# Altium footprint library Connector_PinSocket_2.54mm.PcbLib: 278 footprints (part 16 of 18)
Each footprint in its own frame and in the unit in brackets; x right, y up, seen from the top. Pads: shape width x height; smd on the part's side, far side on the other; paste and mask are expansions set on the pad; w line width, h text height; cw(c..) or ccw(c..) is an arc to the next point about the centre after c.
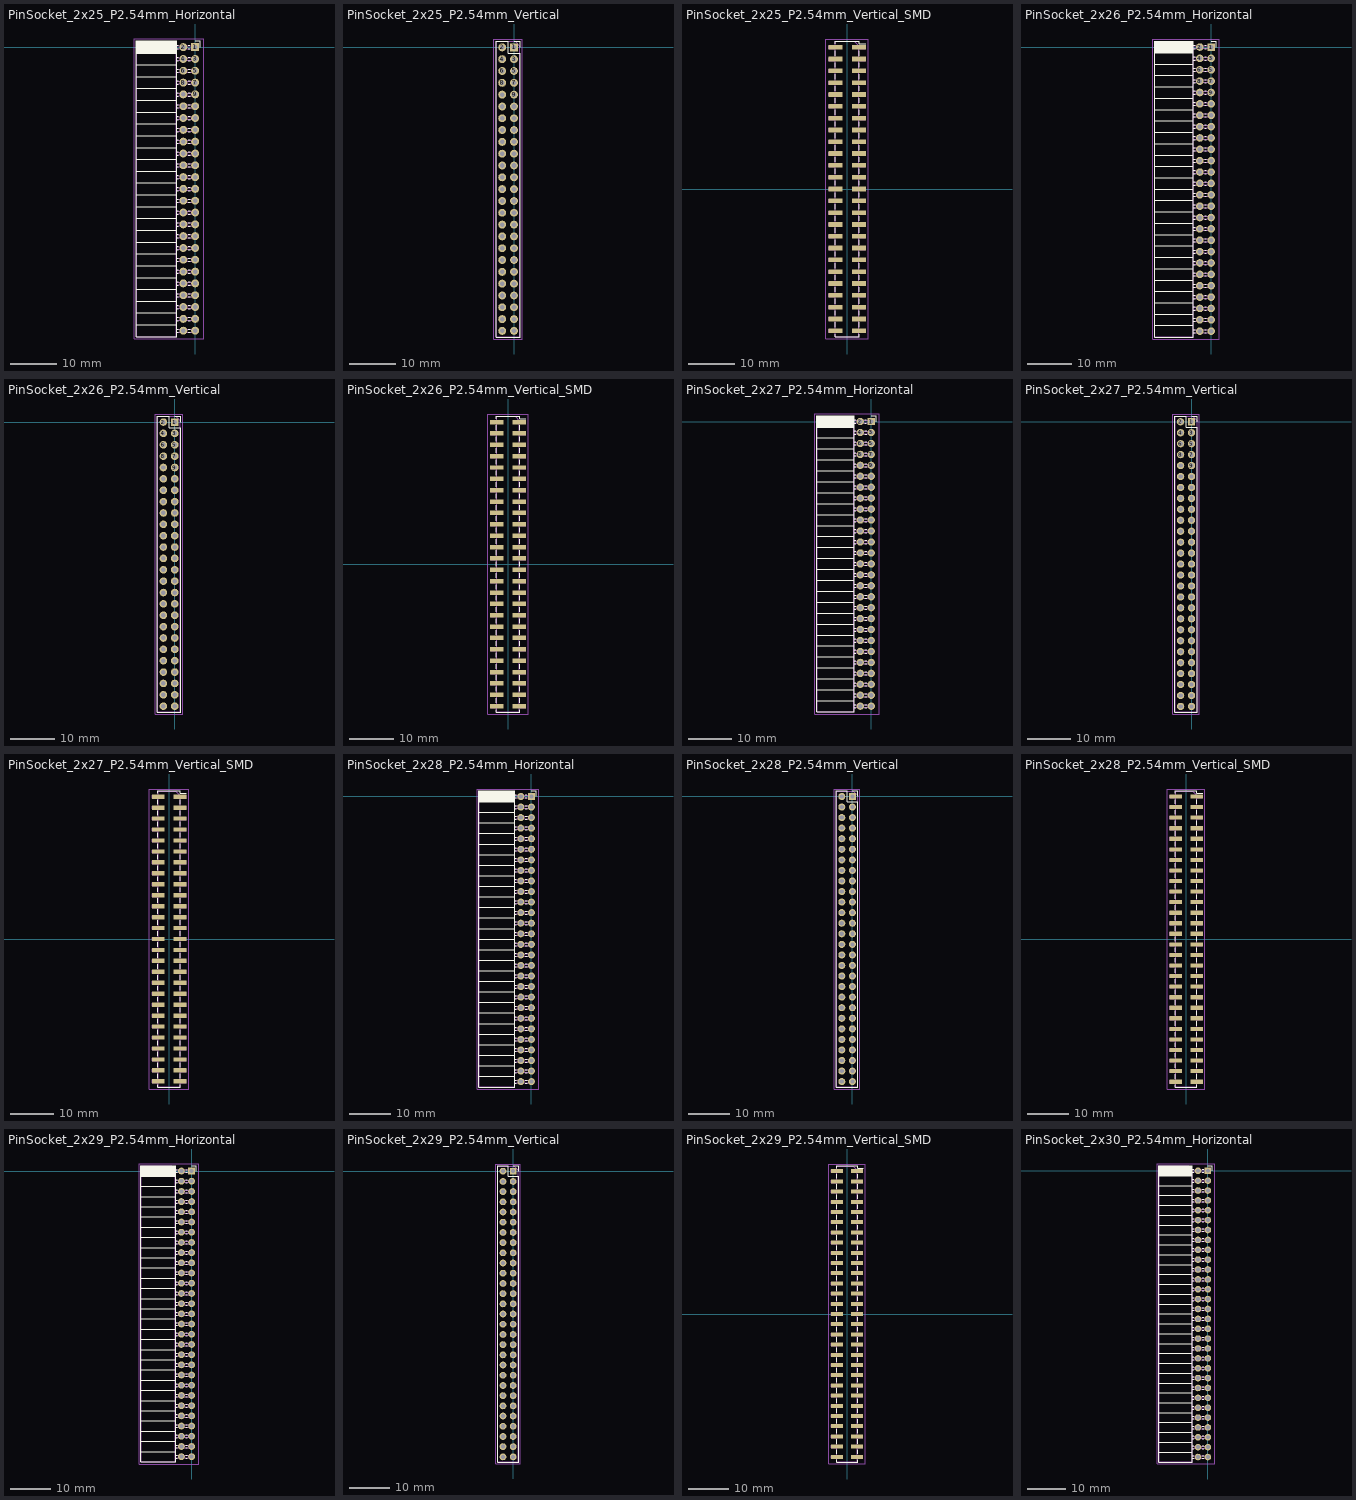
[diagram p15: the footprints below, top view; thin cyan lines are the x and y axes]

## PinSocket_2x25_P2.54mm_Horizontal [mm]
pads (50):
  rect 1.7x1.7 hole 1: 1(0,0)
  round 1.7 hole 1: 2(-2.54,0) 3(0,-2.54) 4(-2.54,-2.54) 5(0,-5.08) 6(-2.54,-5.08) 7(0,-7.62) 8(-2.54,-7.62) 9(0,-10.16) 10(-2.54,-10.16) 11(0,-12.7) 12(-2.54,-12.7) 13(0,-15.24) 14(-2.54,-15.24) 15(0,-17.78) 16(-2.54,-17.78) 17(0,-20.32) 18(-2.54,-20.32) 19(0,-22.86) 20(-2.54,-22.86) 21(0,-25.4) 22(-2.54,-25.4) 23(0,-27.94) 24(-2.54,-27.94) 25(0,-30.48) 26(-2.54,-30.48) 27(0,-33.02) 28(-2.54,-33.02) 29(0,-35.56) 30(-2.54,-35.56) 31(0,-38.1) 32(-2.54,-38.1) 33(0,-40.64) 34(-2.54,-40.64) 35(0,-43.18) 36(-2.54,-43.18) 37(0,-45.72) 38(-2.54,-45.72) 39(0,-48.26) 40(-2.54,-48.26) 41(0,-50.8) 42(-2.54,-50.8) 43(0,-53.34) 44(-2.54,-53.34) 45(0,-55.88) 46(-2.54,-55.88) 47(0,-58.42) 48(-2.54,-58.42) 49(0,-60.96) 50(-2.54,-60.96)
F.SilkS:
  drawing of 151 lines, arcs and shapes, not listed
Top Assembly:
  lines w0.254: -4.06,-61.26 0,-61.26 0,-60.66 -4.06,-60.66 ; -4.06,-58.72 0,-58.72 0,-58.12 -4.06,-58.12 ; -4.06,-56.18 0,-56.18 0,-55.58 -4.06,-55.58 ; -4.06,-53.64 0,-53.64 0,-53.04 -4.06,-53.04 ; -4.06,-51.1 0,-51.1 0,-50.5 -4.06,-50.5 ; -4.06,-48.56 0,-48.56 0,-47.96 -4.06,-47.96 ; -4.06,-46.02 0,-46.02 0,-45.42 -4.06,-45.42 ; -4.06,-43.48 0,-43.48 0,-42.88 -4.06,-42.88 ; -4.06,-40.94 0,-40.94 0,-40.34 -4.06,-40.34 ; -4.06,-38.4 0,-38.4 0,-37.8 -4.06,-37.8 ; -4.06,-35.86 0,-35.86 0,-35.26 -4.06,-35.26 ; -4.06,-33.32 0,-33.32 0,-32.72 -4.06,-32.72 ; -4.06,-30.78 0,-30.78 0,-30.18 -4.06,-30.18 ; -4.06,-28.24 0,-28.24 0,-27.64 -4.06,-27.64 ; -4.06,-25.7 0,-25.7 0,-25.1 -4.06,-25.1 ; -4.06,-23.16 0,-23.16 0,-22.56 -4.06,-22.56 ; -4.06,-20.62 0,-20.62 0,-20.02 -4.06,-20.02 ; -4.06,-18.08 0,-18.08 0,-17.48 -4.06,-17.48 ; -4.06,-15.54 0,-15.54 0,-14.94 -4.06,-14.94 ; -4.06,-13 0,-13 0,-12.4 -4.06,-12.4 ; -4.06,-10.46 0,-10.46 0,-9.86 -4.06,-9.86 ; -4.06,-7.92 0,-7.92 0,-7.32 -4.06,-7.32 ; -4.06,-5.38 0,-5.38 0,-4.78 -4.06,-4.78 ; -4.06,-2.84 0,-2.84 0,-2.24 -4.06,-2.24 ; -4.06,-0.3 0,-0.3 0,0.3 -4.06,0.3 ; -4.06,0.3 -4.06,-62.23 -12.57,-62.23 -12.57,1.27 -5.03,1.27 -4.06,0.3
  text "'.Designator'" at -7.475,-34.527 h1
Top Courtyard:
  lines w0.254: -13.05,-62.75 1.8,-62.75 1.8,1.75 -13.05,1.75 -13.05,-62.75
Top Designator:
  text ".Designator" at -13.243,-31.008 h1.52

## PinSocket_2x25_P2.54mm_Vertical [mm]
pads (50):
  rect 1.7x1.7 hole 1: 1(0,0)
  round 1.7 hole 1: 2(-2.54,0) 3(0,-2.54) 4(-2.54,-2.54) 5(0,-5.08) 6(-2.54,-5.08) 7(0,-7.62) 8(-2.54,-7.62) 9(0,-10.16) 10(-2.54,-10.16) 11(0,-12.7) 12(-2.54,-12.7) 13(0,-15.24) 14(-2.54,-15.24) 15(0,-17.78) 16(-2.54,-17.78) 17(0,-20.32) 18(-2.54,-20.32) 19(0,-22.86) 20(-2.54,-22.86) 21(0,-25.4) 22(-2.54,-25.4) 23(0,-27.94) 24(-2.54,-27.94) 25(0,-30.48) 26(-2.54,-30.48) 27(0,-33.02) 28(-2.54,-33.02) 29(0,-35.56) 30(-2.54,-35.56) 31(0,-38.1) 32(-2.54,-38.1) 33(0,-40.64) 34(-2.54,-40.64) 35(0,-43.18) 36(-2.54,-43.18) 37(0,-45.72) 38(-2.54,-45.72) 39(0,-48.26) 40(-2.54,-48.26) 41(0,-50.8) 42(-2.54,-50.8) 43(0,-53.34) 44(-2.54,-53.34) 45(0,-55.88) 46(-2.54,-55.88) 47(0,-58.42) 48(-2.54,-58.42) 49(0,-60.96) 50(-2.54,-60.96)
F.SilkS:
  lines w0.254: 0,1.33 1.33,1.33 1.33,0 ; -3.87,-62.29 1.33,-62.29 1.33,-1.27 -1.27,-1.27 -1.27,1.33 -3.87,1.33 -3.87,-62.29
Top Assembly:
  lines w0.254: -3.81,-62.23 1.27,-62.23 1.27,0.27 0.27,1.27 -3.81,1.27 -3.81,-62.23
  text "'.Designator'" at -0.43,-34.527 h1
Top Courtyard:
  lines w0.254: -4.34,-62.7 1.76,-62.7 1.76,1.8 -4.34,1.8 -4.34,-62.7
Top Designator:
  text ".Designator" at -8.908,-30.958 h1.52

## PinSocket_2x25_P2.54mm_Vertical_SMD [mm]
pads (50):
  rect 3x1 smd: 1(2.52,30.48) 2(-2.52,30.48) 3(2.52,27.94) 4(-2.52,27.94) 5(2.52,25.4) 6(-2.52,25.4) 7(2.52,22.86) 8(-2.52,22.86) 9(2.52,20.32) 10(-2.52,20.32) 11(2.52,17.78) 12(-2.52,17.78) 13(2.52,15.24) 14(-2.52,15.24) 15(2.52,12.7) 16(-2.52,12.7) 17(2.52,10.16) 18(-2.52,10.16) 19(2.52,7.62) 20(-2.52,7.62) 21(2.52,5.08) 22(-2.52,5.08) 23(2.52,2.54) 24(-2.52,2.54) 25(2.52,0) 26(-2.52,0) 27(2.52,-2.54) 28(-2.52,-2.54) 29(2.52,-5.08) 30(-2.52,-5.08) 31(2.52,-7.62) 32(-2.52,-7.62) 33(2.52,-10.16) 34(-2.52,-10.16) 35(2.52,-12.7) 36(-2.52,-12.7) 37(2.52,-15.24) 38(-2.52,-15.24) 39(2.52,-17.78) 40(-2.52,-17.78) 41(2.52,-20.32) 42(-2.52,-20.32) 43(2.52,-22.86) 44(-2.52,-22.86) 45(2.52,-25.4) 46(-2.52,-25.4) 47(2.52,-27.94) 48(-2.52,-27.94) 49(2.52,-30.48) 50(-2.52,-30.48)
F.SilkS:
  lines w0.254: -2.6,-31.24 -2.6,-31.81 2.6,-31.81 2.6,-31.24 ; -2.6,-29.72 -2.6,-28.7 ; -2.6,-27.18 -2.6,-26.16 ; -2.6,-24.64 -2.6,-23.62 ; -2.6,-22.1 -2.6,-21.08 ; -2.6,-19.56 -2.6,-18.54 ; -2.6,-17.02 -2.6,-16 ; -2.6,-14.48 -2.6,-13.46 ; -2.6,-11.94 -2.6,-10.92 ; -2.6,-9.4 -2.6,-8.38 ; -2.6,-6.86 -2.6,-5.84 ; -2.6,-4.32 -2.6,-3.3 ; -2.6,-1.78 -2.6,-0.76 ; -2.6,0.76 -2.6,1.78 ; -2.6,3.3 -2.6,4.32 ; -2.6,5.84 -2.6,6.86 ; -2.6,8.38 -2.6,9.4 ; -2.6,10.92 -2.6,11.94 ; -2.6,13.46 -2.6,14.48 ; -2.6,16 -2.6,17.02 ; -2.6,18.54 -2.6,19.56 ; -2.6,21.08 -2.6,22.1 ; -2.6,23.62 -2.6,24.64 ; -2.6,26.16 -2.6,27.18 ; -2.6,28.7 -2.6,29.72 ; -2.6,31.24 -2.6,31.81 2.6,31.81 2.6,31.24 3.96,31.24 ; 2.6,-29.72 2.6,-28.7 ; 2.6,-27.18 2.6,-26.16 ; 2.6,-24.64 2.6,-23.62 ; 2.6,-22.1 2.6,-21.08 ; 2.6,-19.56 2.6,-18.54 ; 2.6,-17.02 2.6,-16 ; 2.6,-14.48 2.6,-13.46 ; 2.6,-11.94 2.6,-10.92 ; 2.6,-9.4 2.6,-8.38 ; 2.6,-6.86 2.6,-5.84 ; 2.6,-4.32 2.6,-3.3 ; 2.6,-1.78 2.6,-0.76 ; 2.6,0.76 2.6,1.78 ; 2.6,3.3 2.6,4.32 ; 2.6,5.84 2.6,6.86 ; 2.6,8.38 2.6,9.4 ; 2.6,10.92 2.6,11.94 ; 2.6,13.46 2.6,14.48 ; 2.6,16 2.6,17.02 ; 2.6,18.54 2.6,19.56 ; 2.6,21.08 2.6,22.1 ; 2.6,23.62 2.6,24.64 ; 2.6,26.16 2.6,27.18 ; 2.6,28.7 2.6,29.72
Top Assembly:
  drawing of 155 lines, arcs and shapes, not listed
  text "'.Designator'" at 0.84,-4.047 h1
Top Courtyard:
  lines w0.254: -4.55,-32.25 4.5,-32.25 4.5,32.25 -4.55,32.25 -4.55,-32.25
Top Designator:
  text ".Designator" at -7.643,-0.508 h1.52

## PinSocket_2x26_P2.54mm_Horizontal [mm]
pads (52):
  rect 1.7x1.7 hole 1: 1(0,0)
  round 1.7 hole 1: 2(-2.54,0) 3(0,-2.54) 4(-2.54,-2.54) 5(0,-5.08) 6(-2.54,-5.08) 7(0,-7.62) 8(-2.54,-7.62) 9(0,-10.16) 10(-2.54,-10.16) 11(0,-12.7) 12(-2.54,-12.7) 13(0,-15.24) 14(-2.54,-15.24) 15(0,-17.78) 16(-2.54,-17.78) 17(0,-20.32) 18(-2.54,-20.32) 19(0,-22.86) 20(-2.54,-22.86) 21(0,-25.4) 22(-2.54,-25.4) 23(0,-27.94) 24(-2.54,-27.94) 25(0,-30.48) 26(-2.54,-30.48) 27(0,-33.02) 28(-2.54,-33.02) 29(0,-35.56) 30(-2.54,-35.56) 31(0,-38.1) 32(-2.54,-38.1) 33(0,-40.64) 34(-2.54,-40.64) 35(0,-43.18) 36(-2.54,-43.18) 37(0,-45.72) 38(-2.54,-45.72) 39(0,-48.26) 40(-2.54,-48.26) 41(0,-50.8) 42(-2.54,-50.8) 43(0,-53.34) 44(-2.54,-53.34) 45(0,-55.88) 46(-2.54,-55.88) 47(0,-58.42) 48(-2.54,-58.42) 49(0,-60.96) 50(-2.54,-60.96) 51(0,-63.5) 52(-2.54,-63.5)
F.SilkS:
  drawing of 156 lines, arcs and shapes, not listed
Top Assembly:
  lines w0.254: -4.06,-63.8 0,-63.8 0,-63.2 -4.06,-63.2 ; -4.06,-61.26 0,-61.26 0,-60.66 -4.06,-60.66 ; -4.06,-58.72 0,-58.72 0,-58.12 -4.06,-58.12 ; -4.06,-56.18 0,-56.18 0,-55.58 -4.06,-55.58 ; -4.06,-53.64 0,-53.64 0,-53.04 -4.06,-53.04 ; -4.06,-51.1 0,-51.1 0,-50.5 -4.06,-50.5 ; -4.06,-48.56 0,-48.56 0,-47.96 -4.06,-47.96 ; -4.06,-46.02 0,-46.02 0,-45.42 -4.06,-45.42 ; -4.06,-43.48 0,-43.48 0,-42.88 -4.06,-42.88 ; -4.06,-40.94 0,-40.94 0,-40.34 -4.06,-40.34 ; -4.06,-38.4 0,-38.4 0,-37.8 -4.06,-37.8 ; -4.06,-35.86 0,-35.86 0,-35.26 -4.06,-35.26 ; -4.06,-33.32 0,-33.32 0,-32.72 -4.06,-32.72 ; -4.06,-30.78 0,-30.78 0,-30.18 -4.06,-30.18 ; -4.06,-28.24 0,-28.24 0,-27.64 -4.06,-27.64 ; -4.06,-25.7 0,-25.7 0,-25.1 -4.06,-25.1 ; -4.06,-23.16 0,-23.16 0,-22.56 -4.06,-22.56 ; -4.06,-20.62 0,-20.62 0,-20.02 -4.06,-20.02 ; -4.06,-18.08 0,-18.08 0,-17.48 -4.06,-17.48 ; -4.06,-15.54 0,-15.54 0,-14.94 -4.06,-14.94 ; -4.06,-13 0,-13 0,-12.4 -4.06,-12.4 ; -4.06,-10.46 0,-10.46 0,-9.86 -4.06,-9.86 ; -4.06,-7.92 0,-7.92 0,-7.32 -4.06,-7.32 ; -4.06,-5.38 0,-5.38 0,-4.78 -4.06,-4.78 ; -4.06,-2.84 0,-2.84 0,-2.24 -4.06,-2.24 ; -4.06,-0.3 0,-0.3 0,0.3 -4.06,0.3 ; -4.06,0.3 -4.06,-64.77 -12.57,-64.77 -12.57,1.27 -5.03,1.27 -4.06,0.3
  text "'.Designator'" at -7.475,-35.797 h1
Top Courtyard:
  lines w0.254: -13.05,-65.25 1.8,-65.25 1.8,1.8 -13.05,1.8 -13.05,-65.25
Top Designator:
  text ".Designator" at -13.243,-32.233 h1.52

## PinSocket_2x26_P2.54mm_Vertical [mm]
pads (52):
  rect 1.7x1.7 hole 1: 1(0,0)
  round 1.7 hole 1: 2(-2.54,0) 3(0,-2.54) 4(-2.54,-2.54) 5(0,-5.08) 6(-2.54,-5.08) 7(0,-7.62) 8(-2.54,-7.62) 9(0,-10.16) 10(-2.54,-10.16) 11(0,-12.7) 12(-2.54,-12.7) 13(0,-15.24) 14(-2.54,-15.24) 15(0,-17.78) 16(-2.54,-17.78) 17(0,-20.32) 18(-2.54,-20.32) 19(0,-22.86) 20(-2.54,-22.86) 21(0,-25.4) 22(-2.54,-25.4) 23(0,-27.94) 24(-2.54,-27.94) 25(0,-30.48) 26(-2.54,-30.48) 27(0,-33.02) 28(-2.54,-33.02) 29(0,-35.56) 30(-2.54,-35.56) 31(0,-38.1) 32(-2.54,-38.1) 33(0,-40.64) 34(-2.54,-40.64) 35(0,-43.18) 36(-2.54,-43.18) 37(0,-45.72) 38(-2.54,-45.72) 39(0,-48.26) 40(-2.54,-48.26) 41(0,-50.8) 42(-2.54,-50.8) 43(0,-53.34) 44(-2.54,-53.34) 45(0,-55.88) 46(-2.54,-55.88) 47(0,-58.42) 48(-2.54,-58.42) 49(0,-60.96) 50(-2.54,-60.96) 51(0,-63.5) 52(-2.54,-63.5)
F.SilkS:
  lines w0.254: 0,1.33 1.33,1.33 1.33,0 ; -3.87,-64.83 1.33,-64.83 1.33,-1.27 -1.27,-1.27 -1.27,1.33 -3.87,1.33 -3.87,-64.83
Top Assembly:
  lines w0.254: -3.81,-64.77 1.27,-64.77 1.27,0.27 0.27,1.27 -3.81,1.27 -3.81,-64.77
  text "'.Designator'" at -0.43,-35.797 h1
Top Courtyard:
  lines w0.254: -4.34,-65.25 1.76,-65.25 1.76,1.8 -4.34,1.8 -4.34,-65.25
Top Designator:
  text ".Designator" at -8.908,-32.233 h1.52

## PinSocket_2x26_P2.54mm_Vertical_SMD [mm]
pads (52):
  rect 3x1 smd: 1(2.52,31.75) 2(-2.52,31.75) 3(2.52,29.21) 4(-2.52,29.21) 5(2.52,26.67) 6(-2.52,26.67) 7(2.52,24.13) 8(-2.52,24.13) 9(2.52,21.59) 10(-2.52,21.59) 11(2.52,19.05) 12(-2.52,19.05) 13(2.52,16.51) 14(-2.52,16.51) 15(2.52,13.97) 16(-2.52,13.97) 17(2.52,11.43) 18(-2.52,11.43) 19(2.52,8.89) 20(-2.52,8.89) 21(2.52,6.35) 22(-2.52,6.35) 23(2.52,3.81) 24(-2.52,3.81) 25(2.52,1.27) 26(-2.52,1.27) 27(2.52,-1.27) 28(-2.52,-1.27) 29(2.52,-3.81) 30(-2.52,-3.81) 31(2.52,-6.35) 32(-2.52,-6.35) 33(2.52,-8.89) 34(-2.52,-8.89) 35(2.52,-11.43) 36(-2.52,-11.43) 37(2.52,-13.97) 38(-2.52,-13.97) 39(2.52,-16.51) 40(-2.52,-16.51) 41(2.52,-19.05) 42(-2.52,-19.05) 43(2.52,-21.59) 44(-2.52,-21.59) 45(2.52,-24.13) 46(-2.52,-24.13) 47(2.52,-26.67) 48(-2.52,-26.67) 49(2.52,-29.21) 50(-2.52,-29.21) 51(2.52,-31.75) 52(-2.52,-31.75)
F.SilkS:
  lines w0.254: -2.6,-32.51 -2.6,-33.08 2.6,-33.08 2.6,-32.51 ; -2.6,-30.99 -2.6,-29.97 ; -2.6,-28.45 -2.6,-27.43 ; -2.6,-25.91 -2.6,-24.89 ; -2.6,-23.37 -2.6,-22.35 ; -2.6,-20.83 -2.6,-19.81 ; -2.6,-18.29 -2.6,-17.27 ; -2.6,-15.75 -2.6,-14.73 ; -2.6,-13.21 -2.6,-12.19 ; -2.6,-10.67 -2.6,-9.65 ; -2.6,-8.13 -2.6,-7.11 ; -2.6,-5.59 -2.6,-4.57 ; -2.6,-3.05 -2.6,-2.03 ; -2.6,-0.51 -2.6,0.51 ; -2.6,2.03 -2.6,3.05 ; -2.6,4.57 -2.6,5.59 ; -2.6,7.11 -2.6,8.13 ; -2.6,9.65 -2.6,10.67 ; -2.6,12.19 -2.6,13.21 ; -2.6,14.73 -2.6,15.75 ; -2.6,17.27 -2.6,18.29 ; -2.6,19.81 -2.6,20.83 ; -2.6,22.35 -2.6,23.37 ; -2.6,24.89 -2.6,25.91 ; -2.6,27.43 -2.6,28.45 ; -2.6,29.97 -2.6,30.99 ; -2.6,32.51 -2.6,33.08 2.6,33.08 2.6,32.51 3.96,32.51 ; 2.6,-30.99 2.6,-29.97 ; 2.6,-28.45 2.6,-27.43 ; 2.6,-25.91 2.6,-24.89 ; 2.6,-23.37 2.6,-22.35 ; 2.6,-20.83 2.6,-19.81 ; 2.6,-18.29 2.6,-17.27 ; 2.6,-15.75 2.6,-14.73 ; 2.6,-13.21 2.6,-12.19 ; 2.6,-10.67 2.6,-9.65 ; 2.6,-8.13 2.6,-7.11 ; 2.6,-5.59 2.6,-4.57 ; 2.6,-3.05 2.6,-2.03 ; 2.6,-0.51 2.6,0.51 ; 2.6,2.03 2.6,3.05 ; 2.6,4.57 2.6,5.59 ; 2.6,7.11 2.6,8.13 ; 2.6,9.65 2.6,10.67 ; 2.6,12.19 2.6,13.21 ; 2.6,14.73 2.6,15.75 ; 2.6,17.27 2.6,18.29 ; 2.6,19.81 2.6,20.83 ; 2.6,22.35 2.6,23.37 ; 2.6,24.89 2.6,25.91 ; 2.6,27.43 2.6,28.45 ; 2.6,29.97 2.6,30.99
Top Assembly:
  drawing of 161 lines, arcs and shapes, not listed
  text "'.Designator'" at 0.84,-4.047 h1
Top Courtyard:
  lines w0.254: -4.55,-33.5 4.5,-33.5 4.5,33.55 -4.55,33.55 -4.55,-33.5
Top Designator:
  text ".Designator" at -7.643,-0.483 h1.52

## PinSocket_2x27_P2.54mm_Horizontal [mm]
pads (54):
  rect 1.7x1.7 hole 1: 1(0,0)
  round 1.7 hole 1: 2(-2.54,0) 3(0,-2.54) 4(-2.54,-2.54) 5(0,-5.08) 6(-2.54,-5.08) 7(0,-7.62) 8(-2.54,-7.62) 9(0,-10.16) 10(-2.54,-10.16) 11(0,-12.7) 12(-2.54,-12.7) 13(0,-15.24) 14(-2.54,-15.24) 15(0,-17.78) 16(-2.54,-17.78) 17(0,-20.32) 18(-2.54,-20.32) 19(0,-22.86) 20(-2.54,-22.86) 21(0,-25.4) 22(-2.54,-25.4) 23(0,-27.94) 24(-2.54,-27.94) 25(0,-30.48) 26(-2.54,-30.48) 27(0,-33.02) 28(-2.54,-33.02) 29(0,-35.56) 30(-2.54,-35.56) 31(0,-38.1) 32(-2.54,-38.1) 33(0,-40.64) 34(-2.54,-40.64) 35(0,-43.18) 36(-2.54,-43.18) 37(0,-45.72) 38(-2.54,-45.72) 39(0,-48.26) 40(-2.54,-48.26) 41(0,-50.8) 42(-2.54,-50.8) 43(0,-53.34) 44(-2.54,-53.34) 45(0,-55.88) 46(-2.54,-55.88) 47(0,-58.42) 48(-2.54,-58.42) 49(0,-60.96) 50(-2.54,-60.96) 51(0,-63.5) 52(-2.54,-63.5) 53(0,-66.04) 54(-2.54,-66.04)
F.SilkS:
  drawing of 161 lines, arcs and shapes, not listed
Top Assembly:
  lines w0.254: -4.06,-66.34 0,-66.34 0,-65.74 -4.06,-65.74 ; -4.06,-63.8 0,-63.8 0,-63.2 -4.06,-63.2 ; -4.06,-61.26 0,-61.26 0,-60.66 -4.06,-60.66 ; -4.06,-58.72 0,-58.72 0,-58.12 -4.06,-58.12 ; -4.06,-56.18 0,-56.18 0,-55.58 -4.06,-55.58 ; -4.06,-53.64 0,-53.64 0,-53.04 -4.06,-53.04 ; -4.06,-51.1 0,-51.1 0,-50.5 -4.06,-50.5 ; -4.06,-48.56 0,-48.56 0,-47.96 -4.06,-47.96 ; -4.06,-46.02 0,-46.02 0,-45.42 -4.06,-45.42 ; -4.06,-43.48 0,-43.48 0,-42.88 -4.06,-42.88 ; -4.06,-40.94 0,-40.94 0,-40.34 -4.06,-40.34 ; -4.06,-38.4 0,-38.4 0,-37.8 -4.06,-37.8 ; -4.06,-35.86 0,-35.86 0,-35.26 -4.06,-35.26 ; -4.06,-33.32 0,-33.32 0,-32.72 -4.06,-32.72 ; -4.06,-30.78 0,-30.78 0,-30.18 -4.06,-30.18 ; -4.06,-28.24 0,-28.24 0,-27.64 -4.06,-27.64 ; -4.06,-25.7 0,-25.7 0,-25.1 -4.06,-25.1 ; -4.06,-23.16 0,-23.16 0,-22.56 -4.06,-22.56 ; -4.06,-20.62 0,-20.62 0,-20.02 -4.06,-20.02 ; -4.06,-18.08 0,-18.08 0,-17.48 -4.06,-17.48 ; -4.06,-15.54 0,-15.54 0,-14.94 -4.06,-14.94 ; -4.06,-13 0,-13 0,-12.4 -4.06,-12.4 ; -4.06,-10.46 0,-10.46 0,-9.86 -4.06,-9.86 ; -4.06,-7.92 0,-7.92 0,-7.32 -4.06,-7.32 ; -4.06,-5.38 0,-5.38 0,-4.78 -4.06,-4.78 ; -4.06,-2.84 0,-2.84 0,-2.24 -4.06,-2.24 ; -4.06,-0.3 0,-0.3 0,0.3 -4.06,0.3 ; -4.06,0.3 -4.06,-67.31 -12.57,-67.31 -12.57,1.27 -5.03,1.27 -4.06,0.3
  text "'.Designator'" at -7.475,-37.067 h1
Top Courtyard:
  lines w0.254: -13.05,-67.85 1.8,-67.85 1.8,1.75 -13.05,1.75 -13.05,-67.85
Top Designator:
  text ".Designator" at -13.243,-33.558 h1.52

## PinSocket_2x27_P2.54mm_Vertical [mm]
pads (54):
  rect 1.7x1.7 hole 1: 1(0,0)
  round 1.7 hole 1: 2(-2.54,0) 3(0,-2.54) 4(-2.54,-2.54) 5(0,-5.08) 6(-2.54,-5.08) 7(0,-7.62) 8(-2.54,-7.62) 9(0,-10.16) 10(-2.54,-10.16) 11(0,-12.7) 12(-2.54,-12.7) 13(0,-15.24) 14(-2.54,-15.24) 15(0,-17.78) 16(-2.54,-17.78) 17(0,-20.32) 18(-2.54,-20.32) 19(0,-22.86) 20(-2.54,-22.86) 21(0,-25.4) 22(-2.54,-25.4) 23(0,-27.94) 24(-2.54,-27.94) 25(0,-30.48) 26(-2.54,-30.48) 27(0,-33.02) 28(-2.54,-33.02) 29(0,-35.56) 30(-2.54,-35.56) 31(0,-38.1) 32(-2.54,-38.1) 33(0,-40.64) 34(-2.54,-40.64) 35(0,-43.18) 36(-2.54,-43.18) 37(0,-45.72) 38(-2.54,-45.72) 39(0,-48.26) 40(-2.54,-48.26) 41(0,-50.8) 42(-2.54,-50.8) 43(0,-53.34) 44(-2.54,-53.34) 45(0,-55.88) 46(-2.54,-55.88) 47(0,-58.42) 48(-2.54,-58.42) 49(0,-60.96) 50(-2.54,-60.96) 51(0,-63.5) 52(-2.54,-63.5) 53(0,-66.04) 54(-2.54,-66.04)
F.SilkS:
  lines w0.254: 0,1.33 1.33,1.33 1.33,0 ; -3.87,-67.37 1.33,-67.37 1.33,-1.27 -1.27,-1.27 -1.27,1.33 -3.87,1.33 -3.87,-67.37
Top Assembly:
  lines w0.254: -3.81,-67.31 1.27,-67.31 1.27,0.27 0.27,1.27 -3.81,1.27 -3.81,-67.31
  text "'.Designator'" at -0.43,-37.067 h1
Top Courtyard:
  lines w0.254: -4.34,-67.8 1.76,-67.8 1.76,1.8 -4.34,1.8 -4.34,-67.8
Top Designator:
  text ".Designator" at -8.908,-33.508 h1.52

## PinSocket_2x27_P2.54mm_Vertical_SMD [mm]
pads (54):
  rect 3x1 smd: 1(2.52,33.02) 2(-2.52,33.02) 3(2.52,30.48) 4(-2.52,30.48) 5(2.52,27.94) 6(-2.52,27.94) 7(2.52,25.4) 8(-2.52,25.4) 9(2.52,22.86) 10(-2.52,22.86) 11(2.52,20.32) 12(-2.52,20.32) 13(2.52,17.78) 14(-2.52,17.78) 15(2.52,15.24) 16(-2.52,15.24) 17(2.52,12.7) 18(-2.52,12.7) 19(2.52,10.16) 20(-2.52,10.16) 21(2.52,7.62) 22(-2.52,7.62) 23(2.52,5.08) 24(-2.52,5.08) 25(2.52,2.54) 26(-2.52,2.54) 27(2.52,0) 28(-2.52,0) 29(2.52,-2.54) 30(-2.52,-2.54) 31(2.52,-5.08) 32(-2.52,-5.08) 33(2.52,-7.62) 34(-2.52,-7.62) 35(2.52,-10.16) 36(-2.52,-10.16) 37(2.52,-12.7) 38(-2.52,-12.7) 39(2.52,-15.24) 40(-2.52,-15.24) 41(2.52,-17.78) 42(-2.52,-17.78) 43(2.52,-20.32) 44(-2.52,-20.32) 45(2.52,-22.86) 46(-2.52,-22.86) 47(2.52,-25.4) 48(-2.52,-25.4) 49(2.52,-27.94) 50(-2.52,-27.94) 51(2.52,-30.48) 52(-2.52,-30.48) 53(2.52,-33.02) 54(-2.52,-33.02)
F.SilkS:
  lines w0.254: -2.6,-33.78 -2.6,-34.35 2.6,-34.35 2.6,-33.78 ; -2.6,-32.26 -2.6,-31.24 ; -2.6,-29.72 -2.6,-28.7 ; -2.6,-27.18 -2.6,-26.16 ; -2.6,-24.64 -2.6,-23.62 ; -2.6,-22.1 -2.6,-21.08 ; -2.6,-19.56 -2.6,-18.54 ; -2.6,-17.02 -2.6,-16 ; -2.6,-14.48 -2.6,-13.46 ; -2.6,-11.94 -2.6,-10.92 ; -2.6,-9.4 -2.6,-8.38 ; -2.6,-6.86 -2.6,-5.84 ; -2.6,-4.32 -2.6,-3.3 ; -2.6,-1.78 -2.6,-0.76 ; -2.6,0.76 -2.6,1.78 ; -2.6,3.3 -2.6,4.32 ; -2.6,5.84 -2.6,6.86 ; -2.6,8.38 -2.6,9.4 ; -2.6,10.92 -2.6,11.94 ; -2.6,13.46 -2.6,14.48 ; -2.6,16 -2.6,17.02 ; -2.6,18.54 -2.6,19.56 ; -2.6,21.08 -2.6,22.1 ; -2.6,23.62 -2.6,24.64 ; -2.6,26.16 -2.6,27.18 ; -2.6,28.7 -2.6,29.72 ; -2.6,31.24 -2.6,32.26 ; -2.6,33.78 -2.6,34.35 2.6,34.35 2.6,33.78 3.96,33.78 ; 2.6,-32.26 2.6,-31.24 ; 2.6,-29.72 2.6,-28.7 ; 2.6,-27.18 2.6,-26.16 ; 2.6,-24.64 2.6,-23.62 ; 2.6,-22.1 2.6,-21.08 ; 2.6,-19.56 2.6,-18.54 ; 2.6,-17.02 2.6,-16 ; 2.6,-14.48 2.6,-13.46 ; 2.6,-11.94 2.6,-10.92 ; 2.6,-9.4 2.6,-8.38 ; 2.6,-6.86 2.6,-5.84 ; 2.6,-4.32 2.6,-3.3 ; 2.6,-1.78 2.6,-0.76 ; 2.6,0.76 2.6,1.78 ; 2.6,3.3 2.6,4.32 ; 2.6,5.84 2.6,6.86 ; 2.6,8.38 2.6,9.4 ; 2.6,10.92 2.6,11.94 ; 2.6,13.46 2.6,14.48 ; 2.6,16 2.6,17.02 ; 2.6,18.54 2.6,19.56 ; 2.6,21.08 2.6,22.1 ; 2.6,23.62 2.6,24.64 ; 2.6,26.16 2.6,27.18 ; 2.6,28.7 2.6,29.72 ; 2.6,31.24 2.6,32.26
Top Assembly:
  drawing of 167 lines, arcs and shapes, not listed
  text "'.Designator'" at 0.84,-4.047 h1
Top Courtyard:
  lines w0.254: -4.55,-34.8 4.5,-34.8 4.5,34.8 -4.55,34.8 -4.55,-34.8
Top Designator:
  text ".Designator" at -7.643,-0.508 h1.52

## PinSocket_2x28_P2.54mm_Horizontal [mm]
pads (56):
  rect 1.7x1.7 hole 1: 1(0,0)
  round 1.7 hole 1: 2(-2.54,0) 3(0,-2.54) 4(-2.54,-2.54) 5(0,-5.08) 6(-2.54,-5.08) 7(0,-7.62) 8(-2.54,-7.62) 9(0,-10.16) 10(-2.54,-10.16) 11(0,-12.7) 12(-2.54,-12.7) 13(0,-15.24) 14(-2.54,-15.24) 15(0,-17.78) 16(-2.54,-17.78) 17(0,-20.32) 18(-2.54,-20.32) 19(0,-22.86) 20(-2.54,-22.86) 21(0,-25.4) 22(-2.54,-25.4) 23(0,-27.94) 24(-2.54,-27.94) 25(0,-30.48) 26(-2.54,-30.48) 27(0,-33.02) 28(-2.54,-33.02) 29(0,-35.56) 30(-2.54,-35.56) 31(0,-38.1) 32(-2.54,-38.1) 33(0,-40.64) 34(-2.54,-40.64) 35(0,-43.18) 36(-2.54,-43.18) 37(0,-45.72) 38(-2.54,-45.72) 39(0,-48.26) 40(-2.54,-48.26) 41(0,-50.8) 42(-2.54,-50.8) 43(0,-53.34) 44(-2.54,-53.34) 45(0,-55.88) 46(-2.54,-55.88) 47(0,-58.42) 48(-2.54,-58.42) 49(0,-60.96) 50(-2.54,-60.96) 51(0,-63.5) 52(-2.54,-63.5) 53(0,-66.04) 54(-2.54,-66.04) 55(0,-68.58) 56(-2.54,-68.58)
F.SilkS:
  drawing of 166 lines, arcs and shapes, not listed
Top Assembly:
  lines w0.254: -4.06,-68.88 0,-68.88 0,-68.28 -4.06,-68.28 ; -4.06,-66.34 0,-66.34 0,-65.74 -4.06,-65.74 ; -4.06,-63.8 0,-63.8 0,-63.2 -4.06,-63.2 ; -4.06,-61.26 0,-61.26 0,-60.66 -4.06,-60.66 ; -4.06,-58.72 0,-58.72 0,-58.12 -4.06,-58.12 ; -4.06,-56.18 0,-56.18 0,-55.58 -4.06,-55.58 ; -4.06,-53.64 0,-53.64 0,-53.04 -4.06,-53.04 ; -4.06,-51.1 0,-51.1 0,-50.5 -4.06,-50.5 ; -4.06,-48.56 0,-48.56 0,-47.96 -4.06,-47.96 ; -4.06,-46.02 0,-46.02 0,-45.42 -4.06,-45.42 ; -4.06,-43.48 0,-43.48 0,-42.88 -4.06,-42.88 ; -4.06,-40.94 0,-40.94 0,-40.34 -4.06,-40.34 ; -4.06,-38.4 0,-38.4 0,-37.8 -4.06,-37.8 ; -4.06,-35.86 0,-35.86 0,-35.26 -4.06,-35.26 ; -4.06,-33.32 0,-33.32 0,-32.72 -4.06,-32.72 ; -4.06,-30.78 0,-30.78 0,-30.18 -4.06,-30.18 ; -4.06,-28.24 0,-28.24 0,-27.64 -4.06,-27.64 ; -4.06,-25.7 0,-25.7 0,-25.1 -4.06,-25.1 ; -4.06,-23.16 0,-23.16 0,-22.56 -4.06,-22.56 ; -4.06,-20.62 0,-20.62 0,-20.02 -4.06,-20.02 ; -4.06,-18.08 0,-18.08 0,-17.48 -4.06,-17.48 ; -4.06,-15.54 0,-15.54 0,-14.94 -4.06,-14.94 ; -4.06,-13 0,-13 0,-12.4 -4.06,-12.4 ; -4.06,-10.46 0,-10.46 0,-9.86 -4.06,-9.86 ; -4.06,-7.92 0,-7.92 0,-7.32 -4.06,-7.32 ; -4.06,-5.38 0,-5.38 0,-4.78 -4.06,-4.78 ; -4.06,-2.84 0,-2.84 0,-2.24 -4.06,-2.24 ; -4.06,-0.3 0,-0.3 0,0.3 -4.06,0.3 ; -4.06,0.3 -4.06,-69.85 -12.57,-69.85 -12.57,1.27 -5.03,1.27 -4.06,0.3
  text "'.Designator'" at -7.475,-38.337 h1
Top Courtyard:
  lines w0.254: -13.05,-70.35 1.8,-70.35 1.8,1.8 -13.05,1.8 -13.05,-70.35
Top Designator:
  text ".Designator" at -13.243,-34.783 h1.52

## PinSocket_2x28_P2.54mm_Vertical [mm]
pads (56):
  rect 1.7x1.7 hole 1: 1(0,0)
  round 1.7 hole 1: 2(-2.54,0) 3(0,-2.54) 4(-2.54,-2.54) 5(0,-5.08) 6(-2.54,-5.08) 7(0,-7.62) 8(-2.54,-7.62) 9(0,-10.16) 10(-2.54,-10.16) 11(0,-12.7) 12(-2.54,-12.7) 13(0,-15.24) 14(-2.54,-15.24) 15(0,-17.78) 16(-2.54,-17.78) 17(0,-20.32) 18(-2.54,-20.32) 19(0,-22.86) 20(-2.54,-22.86) 21(0,-25.4) 22(-2.54,-25.4) 23(0,-27.94) 24(-2.54,-27.94) 25(0,-30.48) 26(-2.54,-30.48) 27(0,-33.02) 28(-2.54,-33.02) 29(0,-35.56) 30(-2.54,-35.56) 31(0,-38.1) 32(-2.54,-38.1) 33(0,-40.64) 34(-2.54,-40.64) 35(0,-43.18) 36(-2.54,-43.18) 37(0,-45.72) 38(-2.54,-45.72) 39(0,-48.26) 40(-2.54,-48.26) 41(0,-50.8) 42(-2.54,-50.8) 43(0,-53.34) 44(-2.54,-53.34) 45(0,-55.88) 46(-2.54,-55.88) 47(0,-58.42) 48(-2.54,-58.42) 49(0,-60.96) 50(-2.54,-60.96) 51(0,-63.5) 52(-2.54,-63.5) 53(0,-66.04) 54(-2.54,-66.04) 55(0,-68.58) 56(-2.54,-68.58)
F.SilkS:
  lines w0.254: 0,1.33 1.33,1.33 1.33,0 ; -3.87,-69.91 1.33,-69.91 1.33,-1.27 -1.27,-1.27 -1.27,1.33 -3.87,1.33 -3.87,-69.91
Top Assembly:
  lines w0.254: -3.81,-69.85 1.27,-69.85 1.27,0.27 0.27,1.27 -3.81,1.27 -3.81,-69.85
  text "'.Designator'" at -0.43,-38.337 h1
Top Courtyard:
  lines w0.254: -4.34,-70.35 1.76,-70.35 1.76,1.8 -4.34,1.8 -4.34,-70.35
Top Designator:
  text ".Designator" at -8.908,-34.783 h1.52

## PinSocket_2x28_P2.54mm_Vertical_SMD [mm]
pads (56):
  rect 3x1 smd: 1(2.52,34.29) 2(-2.52,34.29) 3(2.52,31.75) 4(-2.52,31.75) 5(2.52,29.21) 6(-2.52,29.21) 7(2.52,26.67) 8(-2.52,26.67) 9(2.52,24.13) 10(-2.52,24.13) 11(2.52,21.59) 12(-2.52,21.59) 13(2.52,19.05) 14(-2.52,19.05) 15(2.52,16.51) 16(-2.52,16.51) 17(2.52,13.97) 18(-2.52,13.97) 19(2.52,11.43) 20(-2.52,11.43) 21(2.52,8.89) 22(-2.52,8.89) 23(2.52,6.35) 24(-2.52,6.35) 25(2.52,3.81) 26(-2.52,3.81) 27(2.52,1.27) 28(-2.52,1.27) 29(2.52,-1.27) 30(-2.52,-1.27) 31(2.52,-3.81) 32(-2.52,-3.81) 33(2.52,-6.35) 34(-2.52,-6.35) 35(2.52,-8.89) 36(-2.52,-8.89) 37(2.52,-11.43) 38(-2.52,-11.43) 39(2.52,-13.97) 40(-2.52,-13.97) 41(2.52,-16.51) 42(-2.52,-16.51) 43(2.52,-19.05) 44(-2.52,-19.05) 45(2.52,-21.59) 46(-2.52,-21.59) 47(2.52,-24.13) 48(-2.52,-24.13) 49(2.52,-26.67) 50(-2.52,-26.67) 51(2.52,-29.21) 52(-2.52,-29.21) 53(2.52,-31.75) 54(-2.52,-31.75) 55(2.52,-34.29) 56(-2.52,-34.29)
F.SilkS:
  lines w0.254: -2.6,-35.05 -2.6,-35.62 2.6,-35.62 2.6,-35.05 ; -2.6,-33.53 -2.6,-32.51 ; -2.6,-30.99 -2.6,-29.97 ; -2.6,-28.45 -2.6,-27.43 ; -2.6,-25.91 -2.6,-24.89 ; -2.6,-23.37 -2.6,-22.35 ; -2.6,-20.83 -2.6,-19.81 ; -2.6,-18.29 -2.6,-17.27 ; -2.6,-15.75 -2.6,-14.73 ; -2.6,-13.21 -2.6,-12.19 ; -2.6,-10.67 -2.6,-9.65 ; -2.6,-8.13 -2.6,-7.11 ; -2.6,-5.59 -2.6,-4.57 ; -2.6,-3.05 -2.6,-2.03 ; -2.6,-0.51 -2.6,0.51 ; -2.6,2.03 -2.6,3.05 ; -2.6,4.57 -2.6,5.59 ; -2.6,7.11 -2.6,8.13 ; -2.6,9.65 -2.6,10.67 ; -2.6,12.19 -2.6,13.21 ; -2.6,14.73 -2.6,15.75 ; -2.6,17.27 -2.6,18.29 ; -2.6,19.81 -2.6,20.83 ; -2.6,22.35 -2.6,23.37 ; -2.6,24.89 -2.6,25.91 ; -2.6,27.43 -2.6,28.45 ; -2.6,29.97 -2.6,30.99 ; -2.6,32.51 -2.6,33.53 ; -2.6,35.05 -2.6,35.62 2.6,35.62 2.6,35.05 3.96,35.05 ; 2.6,-33.53 2.6,-32.51 ; 2.6,-30.99 2.6,-29.97 ; 2.6,-28.45 2.6,-27.43 ; 2.6,-25.91 2.6,-24.89 ; 2.6,-23.37 2.6,-22.35 ; 2.6,-20.83 2.6,-19.81 ; 2.6,-18.29 2.6,-17.27 ; 2.6,-15.75 2.6,-14.73 ; 2.6,-13.21 2.6,-12.19 ; 2.6,-10.67 2.6,-9.65 ; 2.6,-8.13 2.6,-7.11 ; 2.6,-5.59 2.6,-4.57 ; 2.6,-3.05 2.6,-2.03 ; 2.6,-0.51 2.6,0.51 ; 2.6,2.03 2.6,3.05 ; 2.6,4.57 2.6,5.59 ; 2.6,7.11 2.6,8.13 ; 2.6,9.65 2.6,10.67 ; 2.6,12.19 2.6,13.21 ; 2.6,14.73 2.6,15.75 ; 2.6,17.27 2.6,18.29 ; 2.6,19.81 2.6,20.83 ; 2.6,22.35 2.6,23.37 ; 2.6,24.89 2.6,25.91 ; 2.6,27.43 2.6,28.45 ; 2.6,29.97 2.6,30.99 ; 2.6,32.51 2.6,33.53
Top Assembly:
  drawing of 173 lines, arcs and shapes, not listed
  text "'.Designator'" at 0.84,-4.047 h1
Top Courtyard:
  lines w0.254: -4.55,-36.05 4.5,-36.05 4.5,36.1 -4.55,36.1 -4.55,-36.05
Top Designator:
  text ".Designator" at -7.643,-0.483 h1.52

## PinSocket_2x29_P2.54mm_Horizontal [mm]
pads (58):
  rect 1.7x1.7 hole 1: 1(0,0)
  round 1.7 hole 1: 2(-2.54,0) 3(0,-2.54) 4(-2.54,-2.54) 5(0,-5.08) 6(-2.54,-5.08) 7(0,-7.62) 8(-2.54,-7.62) 9(0,-10.16) 10(-2.54,-10.16) 11(0,-12.7) 12(-2.54,-12.7) 13(0,-15.24) 14(-2.54,-15.24) 15(0,-17.78) 16(-2.54,-17.78) 17(0,-20.32) 18(-2.54,-20.32) 19(0,-22.86) 20(-2.54,-22.86) 21(0,-25.4) 22(-2.54,-25.4) 23(0,-27.94) 24(-2.54,-27.94) 25(0,-30.48) 26(-2.54,-30.48) 27(0,-33.02) 28(-2.54,-33.02) 29(0,-35.56) 30(-2.54,-35.56) 31(0,-38.1) 32(-2.54,-38.1) 33(0,-40.64) 34(-2.54,-40.64) 35(0,-43.18) 36(-2.54,-43.18) 37(0,-45.72) 38(-2.54,-45.72) 39(0,-48.26) 40(-2.54,-48.26) 41(0,-50.8) 42(-2.54,-50.8) 43(0,-53.34) 44(-2.54,-53.34) 45(0,-55.88) 46(-2.54,-55.88) 47(0,-58.42) 48(-2.54,-58.42) 49(0,-60.96) 50(-2.54,-60.96) 51(0,-63.5) 52(-2.54,-63.5) 53(0,-66.04) 54(-2.54,-66.04) 55(0,-68.58) 56(-2.54,-68.58) 57(0,-71.12) 58(-2.54,-71.12)
F.SilkS:
  drawing of 171 lines, arcs and shapes, not listed
Top Assembly:
  lines w0.254: -4.06,-71.42 0,-71.42 0,-70.82 -4.06,-70.82 ; -4.06,-68.88 0,-68.88 0,-68.28 -4.06,-68.28 ; -4.06,-66.34 0,-66.34 0,-65.74 -4.06,-65.74 ; -4.06,-63.8 0,-63.8 0,-63.2 -4.06,-63.2 ; -4.06,-61.26 0,-61.26 0,-60.66 -4.06,-60.66 ; -4.06,-58.72 0,-58.72 0,-58.12 -4.06,-58.12 ; -4.06,-56.18 0,-56.18 0,-55.58 -4.06,-55.58 ; -4.06,-53.64 0,-53.64 0,-53.04 -4.06,-53.04 ; -4.06,-51.1 0,-51.1 0,-50.5 -4.06,-50.5 ; -4.06,-48.56 0,-48.56 0,-47.96 -4.06,-47.96 ; -4.06,-46.02 0,-46.02 0,-45.42 -4.06,-45.42 ; -4.06,-43.48 0,-43.48 0,-42.88 -4.06,-42.88 ; -4.06,-40.94 0,-40.94 0,-40.34 -4.06,-40.34 ; -4.06,-38.4 0,-38.4 0,-37.8 -4.06,-37.8 ; -4.06,-35.86 0,-35.86 0,-35.26 -4.06,-35.26 ; -4.06,-33.32 0,-33.32 0,-32.72 -4.06,-32.72 ; -4.06,-30.78 0,-30.78 0,-30.18 -4.06,-30.18 ; -4.06,-28.24 0,-28.24 0,-27.64 -4.06,-27.64 ; -4.06,-25.7 0,-25.7 0,-25.1 -4.06,-25.1 ; -4.06,-23.16 0,-23.16 0,-22.56 -4.06,-22.56 ; -4.06,-20.62 0,-20.62 0,-20.02 -4.06,-20.02 ; -4.06,-18.08 0,-18.08 0,-17.48 -4.06,-17.48 ; -4.06,-15.54 0,-15.54 0,-14.94 -4.06,-14.94 ; -4.06,-13 0,-13 0,-12.4 -4.06,-12.4 ; -4.06,-10.46 0,-10.46 0,-9.86 -4.06,-9.86 ; -4.06,-7.92 0,-7.92 0,-7.32 -4.06,-7.32 ; -4.06,-5.38 0,-5.38 0,-4.78 -4.06,-4.78 ; -4.06,-2.84 0,-2.84 0,-2.24 -4.06,-2.24 ; -4.06,-0.3 0,-0.3 0,0.3 -4.06,0.3 ; -4.06,0.3 -4.06,-72.39 -12.57,-72.39 -12.57,1.27 -5.03,1.27 -4.06,0.3
  text "'.Designator'" at -7.475,-39.607 h1
Top Courtyard:
  lines w0.254: -13.05,-72.95 1.8,-72.95 1.8,1.75 -13.05,1.75 -13.05,-72.95
Top Designator:
  text ".Designator" at -13.243,-36.108 h1.52

## PinSocket_2x29_P2.54mm_Vertical [mm]
pads (58):
  rect 1.7x1.7 hole 1: 1(0,0)
  round 1.7 hole 1: 2(-2.54,0) 3(0,-2.54) 4(-2.54,-2.54) 5(0,-5.08) 6(-2.54,-5.08) 7(0,-7.62) 8(-2.54,-7.62) 9(0,-10.16) 10(-2.54,-10.16) 11(0,-12.7) 12(-2.54,-12.7) 13(0,-15.24) 14(-2.54,-15.24) 15(0,-17.78) 16(-2.54,-17.78) 17(0,-20.32) 18(-2.54,-20.32) 19(0,-22.86) 20(-2.54,-22.86) 21(0,-25.4) 22(-2.54,-25.4) 23(0,-27.94) 24(-2.54,-27.94) 25(0,-30.48) 26(-2.54,-30.48) 27(0,-33.02) 28(-2.54,-33.02) 29(0,-35.56) 30(-2.54,-35.56) 31(0,-38.1) 32(-2.54,-38.1) 33(0,-40.64) 34(-2.54,-40.64) 35(0,-43.18) 36(-2.54,-43.18) 37(0,-45.72) 38(-2.54,-45.72) 39(0,-48.26) 40(-2.54,-48.26) 41(0,-50.8) 42(-2.54,-50.8) 43(0,-53.34) 44(-2.54,-53.34) 45(0,-55.88) 46(-2.54,-55.88) 47(0,-58.42) 48(-2.54,-58.42) 49(0,-60.96) 50(-2.54,-60.96) 51(0,-63.5) 52(-2.54,-63.5) 53(0,-66.04) 54(-2.54,-66.04) 55(0,-68.58) 56(-2.54,-68.58) 57(0,-71.12) 58(-2.54,-71.12)
F.SilkS:
  lines w0.254: 0,1.33 1.33,1.33 1.33,0 ; -3.87,-72.45 1.33,-72.45 1.33,-1.27 -1.27,-1.27 -1.27,1.33 -3.87,1.33 -3.87,-72.45
Top Assembly:
  lines w0.254: -3.81,-72.39 1.27,-72.39 1.27,0.27 0.27,1.27 -3.81,1.27 -3.81,-72.39
  text "'.Designator'" at -0.43,-39.607 h1
Top Courtyard:
  lines w0.254: -4.34,-72.9 1.76,-72.9 1.76,1.8 -4.34,1.8 -4.34,-72.9
Top Designator:
  text ".Designator" at -8.908,-36.058 h1.52

## PinSocket_2x29_P2.54mm_Vertical_SMD [mm]
pads (58):
  rect 3x1 smd: 1(2.52,35.56) 2(-2.52,35.56) 3(2.52,33.02) 4(-2.52,33.02) 5(2.52,30.48) 6(-2.52,30.48) 7(2.52,27.94) 8(-2.52,27.94) 9(2.52,25.4) 10(-2.52,25.4) 11(2.52,22.86) 12(-2.52,22.86) 13(2.52,20.32) 14(-2.52,20.32) 15(2.52,17.78) 16(-2.52,17.78) 17(2.52,15.24) 18(-2.52,15.24) 19(2.52,12.7) 20(-2.52,12.7) 21(2.52,10.16) 22(-2.52,10.16) 23(2.52,7.62) 24(-2.52,7.62) 25(2.52,5.08) 26(-2.52,5.08) 27(2.52,2.54) 28(-2.52,2.54) 29(2.52,0) 30(-2.52,0) 31(2.52,-2.54) 32(-2.52,-2.54) 33(2.52,-5.08) 34(-2.52,-5.08) 35(2.52,-7.62) 36(-2.52,-7.62) 37(2.52,-10.16) 38(-2.52,-10.16) 39(2.52,-12.7) 40(-2.52,-12.7) 41(2.52,-15.24) 42(-2.52,-15.24) 43(2.52,-17.78) 44(-2.52,-17.78) 45(2.52,-20.32) 46(-2.52,-20.32) 47(2.52,-22.86) 48(-2.52,-22.86) 49(2.52,-25.4) 50(-2.52,-25.4) 51(2.52,-27.94) 52(-2.52,-27.94) 53(2.52,-30.48) 54(-2.52,-30.48) 55(2.52,-33.02) 56(-2.52,-33.02) 57(2.52,-35.56) 58(-2.52,-35.56)
F.SilkS:
  lines w0.254: -2.6,-36.32 -2.6,-36.89 2.6,-36.89 2.6,-36.32 ; -2.6,-34.8 -2.6,-33.78 ; -2.6,-32.26 -2.6,-31.24 ; -2.6,-29.72 -2.6,-28.7 ; -2.6,-27.18 -2.6,-26.16 ; -2.6,-24.64 -2.6,-23.62 ; -2.6,-22.1 -2.6,-21.08 ; -2.6,-19.56 -2.6,-18.54 ; -2.6,-17.02 -2.6,-16 ; -2.6,-14.48 -2.6,-13.46 ; -2.6,-11.94 -2.6,-10.92 ; -2.6,-9.4 -2.6,-8.38 ; -2.6,-6.86 -2.6,-5.84 ; -2.6,-4.32 -2.6,-3.3 ; -2.6,-1.78 -2.6,-0.76 ; -2.6,0.76 -2.6,1.78 ; -2.6,3.3 -2.6,4.32 ; -2.6,5.84 -2.6,6.86 ; -2.6,8.38 -2.6,9.4 ; -2.6,10.92 -2.6,11.94 ; -2.6,13.46 -2.6,14.48 ; -2.6,16 -2.6,17.02 ; -2.6,18.54 -2.6,19.56 ; -2.6,21.08 -2.6,22.1 ; -2.6,23.62 -2.6,24.64 ; -2.6,26.16 -2.6,27.18 ; -2.6,28.7 -2.6,29.72 ; -2.6,31.24 -2.6,32.26 ; -2.6,33.78 -2.6,34.8 ; -2.6,36.32 -2.6,36.89 2.6,36.89 2.6,36.32 3.96,36.32 ; 2.6,-34.8 2.6,-33.78 ; 2.6,-32.26 2.6,-31.24 ; 2.6,-29.72 2.6,-28.7 ; 2.6,-27.18 2.6,-26.16 ; 2.6,-24.64 2.6,-23.62 ; 2.6,-22.1 2.6,-21.08 ; 2.6,-19.56 2.6,-18.54 ; 2.6,-17.02 2.6,-16 ; 2.6,-14.48 2.6,-13.46 ; 2.6,-11.94 2.6,-10.92 ; 2.6,-9.4 2.6,-8.38 ; 2.6,-6.86 2.6,-5.84 ; 2.6,-4.32 2.6,-3.3 ; 2.6,-1.78 2.6,-0.76 ; 2.6,0.76 2.6,1.78 ; 2.6,3.3 2.6,4.32 ; 2.6,5.84 2.6,6.86 ; 2.6,8.38 2.6,9.4 ; 2.6,10.92 2.6,11.94 ; 2.6,13.46 2.6,14.48 ; 2.6,16 2.6,17.02 ; 2.6,18.54 2.6,19.56 ; 2.6,21.08 2.6,22.1 ; 2.6,23.62 2.6,24.64 ; 2.6,26.16 2.6,27.18 ; 2.6,28.7 2.6,29.72 ; 2.6,31.24 2.6,32.26 ; 2.6,33.78 2.6,34.8
Top Assembly:
  drawing of 179 lines, arcs and shapes, not listed
  text "'.Designator'" at 0.84,-4.047 h1
Top Courtyard:
  lines w0.254: -4.55,-37.35 4.5,-37.35 4.5,37.35 -4.55,37.35 -4.55,-37.35
Top Designator:
  text ".Designator" at -7.643,-0.508 h1.52

## PinSocket_2x30_P2.54mm_Horizontal [mm]
pads (60):
  rect 1.7x1.7 hole 1: 1(0,0)
  round 1.7 hole 1: 2(-2.54,0) 3(0,-2.54) 4(-2.54,-2.54) 5(0,-5.08) 6(-2.54,-5.08) 7(0,-7.62) 8(-2.54,-7.62) 9(0,-10.16) 10(-2.54,-10.16) 11(0,-12.7) 12(-2.54,-12.7) 13(0,-15.24) 14(-2.54,-15.24) 15(0,-17.78) 16(-2.54,-17.78) 17(0,-20.32) 18(-2.54,-20.32) 19(0,-22.86) 20(-2.54,-22.86) 21(0,-25.4) 22(-2.54,-25.4) 23(0,-27.94) 24(-2.54,-27.94) 25(0,-30.48) 26(-2.54,-30.48) 27(0,-33.02) 28(-2.54,-33.02) 29(0,-35.56) 30(-2.54,-35.56) 31(0,-38.1) 32(-2.54,-38.1) 33(0,-40.64) 34(-2.54,-40.64) 35(0,-43.18) 36(-2.54,-43.18) 37(0,-45.72) 38(-2.54,-45.72) 39(0,-48.26) 40(-2.54,-48.26) 41(0,-50.8) 42(-2.54,-50.8) 43(0,-53.34) 44(-2.54,-53.34) 45(0,-55.88) 46(-2.54,-55.88) 47(0,-58.42) 48(-2.54,-58.42) 49(0,-60.96) 50(-2.54,-60.96) 51(0,-63.5) 52(-2.54,-63.5) 53(0,-66.04) 54(-2.54,-66.04) 55(0,-68.58) 56(-2.54,-68.58) 57(0,-71.12) 58(-2.54,-71.12) 59(0,-73.66) 60(-2.54,-73.66)
F.SilkS:
  drawing of 176 lines, arcs and shapes, not listed
Top Assembly:
  lines w0.254: -4.06,-73.96 0,-73.96 0,-73.36 -4.06,-73.36 ; -4.06,-71.42 0,-71.42 0,-70.82 -4.06,-70.82 ; -4.06,-68.88 0,-68.88 0,-68.28 -4.06,-68.28 ; -4.06,-66.34 0,-66.34 0,-65.74 -4.06,-65.74 ; -4.06,-63.8 0,-63.8 0,-63.2 -4.06,-63.2 ; -4.06,-61.26 0,-61.26 0,-60.66 -4.06,-60.66 ; -4.06,-58.72 0,-58.72 0,-58.12 -4.06,-58.12 ; -4.06,-56.18 0,-56.18 0,-55.58 -4.06,-55.58 ; -4.06,-53.64 0,-53.64 0,-53.04 -4.06,-53.04 ; -4.06,-51.1 0,-51.1 0,-50.5 -4.06,-50.5 ; -4.06,-48.56 0,-48.56 0,-47.96 -4.06,-47.96 ; -4.06,-46.02 0,-46.02 0,-45.42 -4.06,-45.42 ; -4.06,-43.48 0,-43.48 0,-42.88 -4.06,-42.88 ; -4.06,-40.94 0,-40.94 0,-40.34 -4.06,-40.34 ; -4.06,-38.4 0,-38.4 0,-37.8 -4.06,-37.8 ; -4.06,-35.86 0,-35.86 0,-35.26 -4.06,-35.26 ; -4.06,-33.32 0,-33.32 0,-32.72 -4.06,-32.72 ; -4.06,-30.78 0,-30.78 0,-30.18 -4.06,-30.18 ; -4.06,-28.24 0,-28.24 0,-27.64 -4.06,-27.64 ; -4.06,-25.7 0,-25.7 0,-25.1 -4.06,-25.1 ; -4.06,-23.16 0,-23.16 0,-22.56 -4.06,-22.56 ; -4.06,-20.62 0,-20.62 0,-20.02 -4.06,-20.02 ; -4.06,-18.08 0,-18.08 0,-17.48 -4.06,-17.48 ; -4.06,-15.54 0,-15.54 0,-14.94 -4.06,-14.94 ; -4.06,-13 0,-13 0,-12.4 -4.06,-12.4 ; -4.06,-10.46 0,-10.46 0,-9.86 -4.06,-9.86 ; -4.06,-7.92 0,-7.92 0,-7.32 -4.06,-7.32 ; -4.06,-5.38 0,-5.38 0,-4.78 -4.06,-4.78 ; -4.06,-2.84 0,-2.84 0,-2.24 -4.06,-2.24 ; -4.06,-0.3 0,-0.3 0,0.3 -4.06,0.3 ; -4.06,0.3 -4.06,-74.93 -12.57,-74.93 -12.57,1.27 -5.03,1.27 -4.06,0.3
  text "'.Designator'" at -7.475,-40.877 h1
Top Courtyard:
  lines w0.254: -13.05,-75.45 1.8,-75.45 1.8,1.75 -13.05,1.75 -13.05,-75.45
Top Designator:
  text ".Designator" at -13.243,-37.358 h1.52